# Altium footprint library LED.PcbLib: 53 footprints (part 3 of 4)
Each footprint in its own frame and in the unit in brackets; x right, y up, seen from the top. Pads: shape width x height; smd on the part's side, far side on the other; paste and mask are expansions set on the pad; w line width, h text height; cw(c..) or ccw(c..) is an arc to the next point about the centre after c.
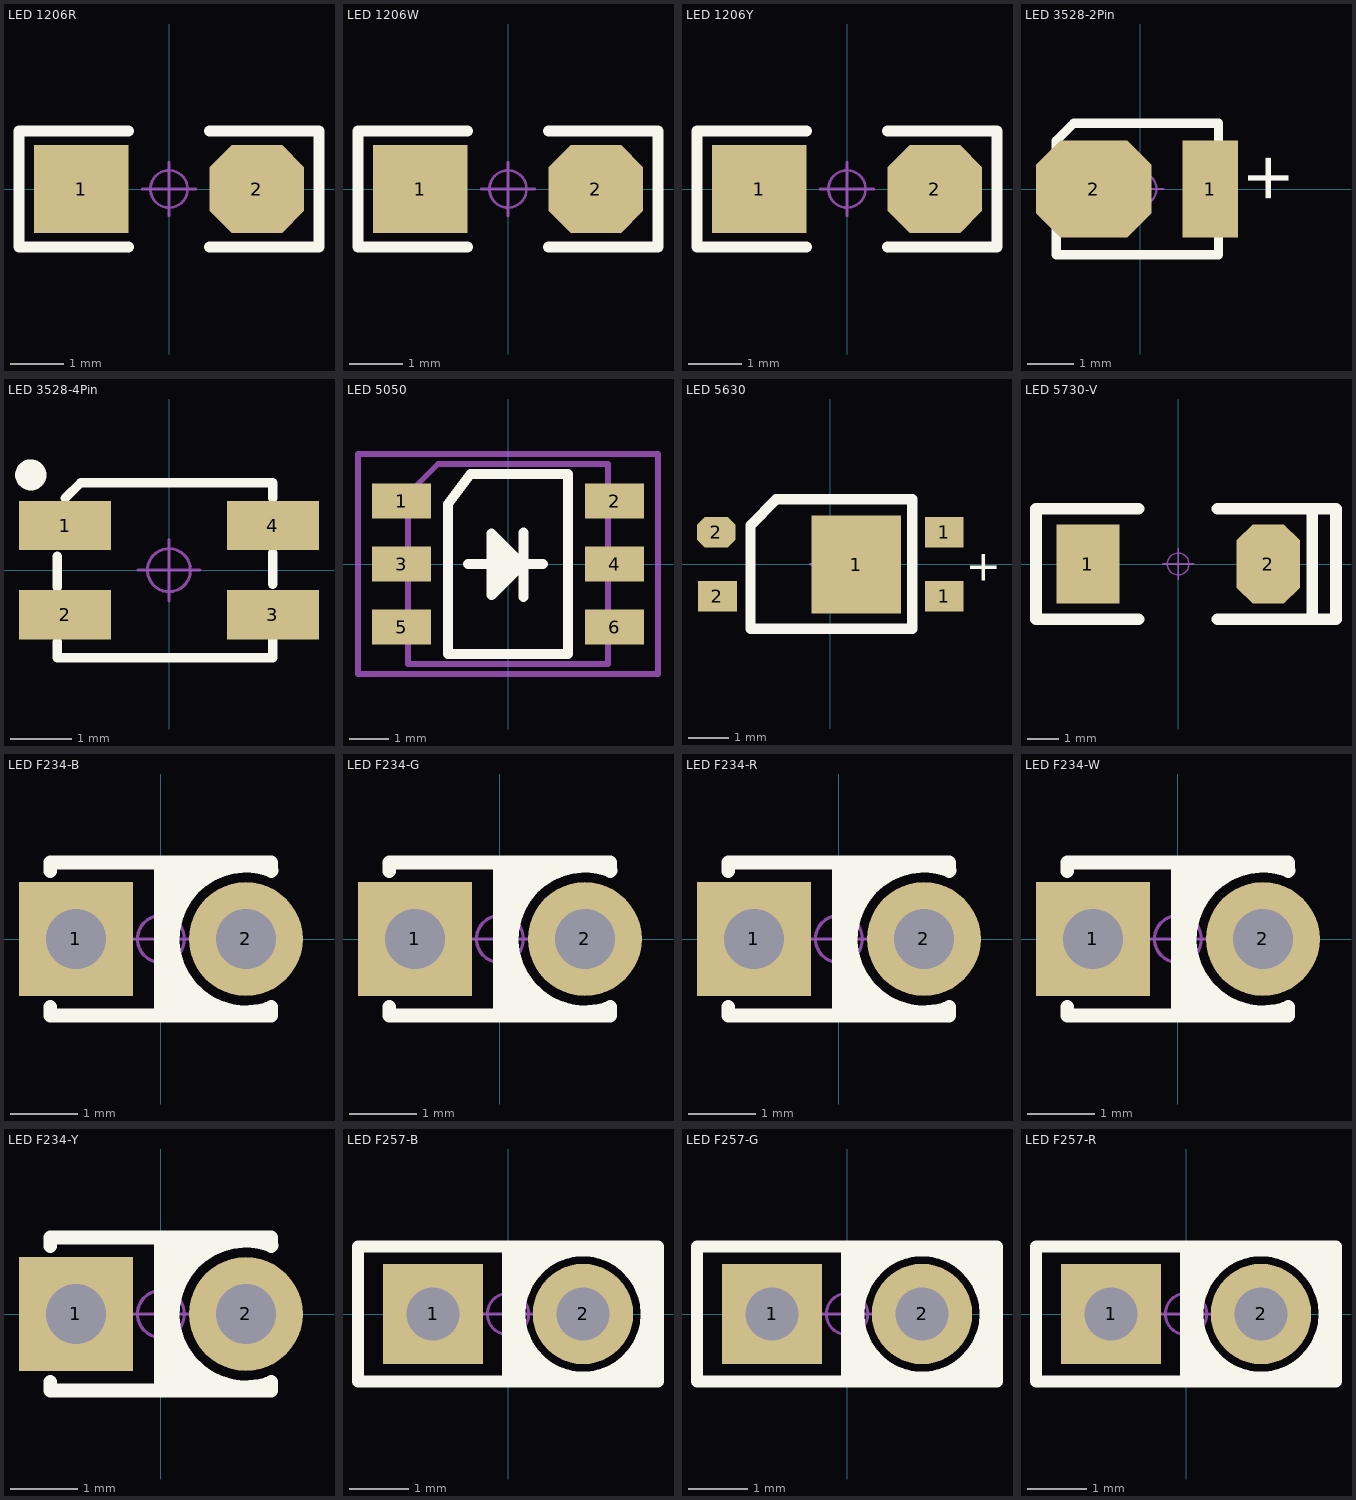
[diagram p2: the footprints below, top view; thin cyan lines are the x and y axes]

## LED 1206R [mil] "红色1206LED"
pads (2):
  rect 70x65 smd: 1(-65,0)
  oct 70x65 smd: 2(65,0)
Top Overlay:
  lines w8: -30,-43 -111,-43 -111,43 -109,43 -30,43 ; 30,-43 109,-43 ; 30,43 111,43 111,-43
Mechanical 15:
  circle w1.97: c0,0 r13.78
  lines w1.97: -19.68,0 19.68,0 ; 0,-19.68 0,19.68
3D body "LED 1206-R.STEP": height 35.58, standoff -0.16, extent -63.03,-31.54 63.03,31.54
3D body "LED 1206玻璃罩.ST": height 0, standoff 0, extent 0,0 0,0

## LED 1206W [mil] "白色1206LED"
pads (2):
  rect 70x65 smd: 1(-65,0)
  oct 70x65 smd: 2(65,0)
Top Overlay:
  lines w8: -30,-43 -111,-43 -111,43 -109,43 -30,43 ; 30,-43 109,-43 ; 30,43 111,43 111,-43
Mechanical 15:
  circle w1.97: c0,0 r13.78
  lines w1.97: -19.68,0 19.68,0 ; 0,-19.68 0,19.68
3D body "LED 1206玻璃罩.ST": height 0, standoff 0, extent 0,0 0,0
3D body "LED 1206-W.STEP": height 35.58, standoff -0.16, extent -63.03,-31.54 63.03,31.54

## LED 1206Y [mil] "黄色1206LED"
pads (2):
  rect 70x65 smd: 1(-65,0)
  oct 70x65 smd: 2(65,0)
Top Overlay:
  lines w8: -30,-43 -111,-43 -111,43 -109,43 -30,43 ; 30,-43 109,-43 ; 30,43 111,43 111,-43
Mechanical 15:
  circle w1.97: c0,0 r13.78
  lines w1.97: -19.68,0 19.68,0 ; 0,-19.68 0,19.68
3D body "LED 1206-Y.STEP": height 35.58, standoff -0.16, extent -63.03,-31.54 63.03,31.54
3D body "LED 1206玻璃罩.ST": height 0, standoff 0, extent 0,0 0,0

## LED 3528-2Pin [mm] "2脚，3528LED"
pads (2):
  rect 1.2x2.1 smd: 1(1.511,0)
  oct 2.5x2.1 smd: 2(-1.003,0)
Top Overlay:
  lines w0.2: -1.816,-1.422 -1.816,1.041 -1.435,1.422 1.689,1.422 1.689,-1.422 -1.816,-1.422
  text "+" at 3.213,-0.356 h1.02
Mechanical 15:
  circle w0.05: c0,0 r0.35
  lines w0.05: -0.5,0 0.5,0 ; 0,-0.5 0,0.5
3D body "LED 3528-2Pin 基体.STEP": height 1.95, standoff 0.05, extent -1.75,-1.4 1.75,1.4
3D body "LED 3528 透明胶.STEP": height 1.95, standoff 1.2, extent -1.195,-1.195 1.195,1.195

## LED 3528-4Pin [mm] "4脚，3528LED"
pads (4):
  rect 1.5x0.8 smd: 1(-1.689,0.725) 2(-1.689,-0.725) 3(1.689,-0.725) 4(1.689,0.725)
Top Overlay:
  circle w0.254: c-2.248,1.549 r0.127
  lines w0.152: -1.816,-1.168 -1.816,-1.422 1.689,-1.422 1.689,-1.118 ; -1.816,-0.279 -1.816,0.229 ; -1.689,1.168 -1.435,1.422 1.689,1.422 1.689,1.168 ; 1.689,-0.229 1.689,0.279
Mechanical 15:
  circle w0.05: c0,0 r0.35
  lines w0.05: -0.5,0 0.5,0 ; 0,-0.5 0,0.5
3D body "LED 3528-4Pin 基体.STEP": height 1.95, standoff 0.05, extent -1.75,-1.4 1.75,1.4
3D body "LED 3528 透明胶.ST": height 1.95, standoff 1.2, extent -1.195,-1.195 1.195,1.195

## LED 5050 [mm] "白色5050LED"
pads (6):
  rect 1.5x0.9 smd: 1(-2.705,1.6) 2(2.705,1.6) 3(-2.705,0) 4(2.705,0) 5(-2.705,-1.6) 6(2.705,-1.6)
Top Overlay:
  lines w0.254: -1.016,0 0.889,0 ; -0.254,0.559 -0.229,-0.432 0.254,0 0,0.254 0,0 0,-0.254 ; 0.356,-0.02 -0.417,-0.792 -0.417,0.775 0.396,-0.038 ; 0.396,-0.841 0.396,0.805 ; -1.524,-2.286 1.524,-2.286 1.524,2.286 -0.953,2.286 -1.524,1.524 -1.524,-2.286
Mechanical 13:
  lines w0.15: -2.54,-2.54 2.54,-2.54 2.54,2.54 -1.778,2.54 -2.54,1.778 -2.54,-2.54
Mechanical 15:
  circle w0.05: c0,0 r0.35
  lines w0.05: -0.5,0 0.5,0 ; 0,-0.5 0,0.5
  lines w0.15: -3.81,-2.794 3.81,-2.794 3.81,2.794 -3.81,2.794 -3.81,-2.794
3D body "LED 5050 透明胶.ST": height 1.65, standoff 0.67, extent -1.995,-1.995 1.995,1.995
3D body "LED 5050 基体.STEP": height 1.65, standoff 0.05, extent -2.7,-2.5 2.7,2.5

## LED 5630 [mm] "白色5630LED"
pads (5):
  rect 2.2x2.4 smd: 1(0.635,-0.006)
  rect 0.95x0.75 smd: 1(2.794,-0.781) 1(2.794,0.781) 2(-2.769,-0.781)
  oct 0.95x0.75 smd: 2(-2.794,0.781)
Top Overlay:
  lines w0.254: -1.956,-1.581 2.007,-1.581 2.007,1.594 -1.321,1.594 -1.956,0.959 -1.956,-1.581
  text "+" at 3.327,-0.4 h0.76
Mechanical 15:
  circle w0.05: c0,0 r0.35
  lines w0.05: -0.5,0 0.5,0 ; 0,-0.5 0,0.5
3D body "LED 5630 基体.STEP": height 0.95, standoff 0.05, extent -2.9,-1.5 2.9,1.5
3D body "LED 5630 透明胶.STEP": height 0.95, standoff 0.6, extent -2.395,-1.395 2.395,1.395

## LED 5730-V [mm] "紫色5730LED"
pads (2):
  rect 2.032x2.54 smd: 1(-2.9,0)
  oct 2.032x2.54 smd: 2(2.9,0)
Top Overlay:
  lines w0.381: -1.27,-1.778 -4.572,-1.778 -4.572,1.778 -1.27,1.778 ; 1.27,-1.778 4.318,-1.778 ; 1.27,1.778 4.318,1.778 4.318,-1.778 ; 4.191,1.778 5.08,1.778 5.08,-1.778 4.318,-1.778
Mechanical 15:
  circle w0.05: c0,0 r0.35
  lines w0.05: -0.5,0 0.5,0 ; 0,-0.5 0,0.5
3D body "LED_UV5730.STEP": height 0.85, standoff 0, extent -2.85,-1.5 2.85,1.5

## LED F234-B [mm] "蓝色2mm*3mm*4mm(长*宽*高)"
pads (2):
  rect 1.7x1.7 hole 0.9: 1(-1.27,0)
  round 1.7 hole 0.9: 2(1.27,0)
Top Overlay:
  lines w0.203: -1.651,-1.016 -1.651,-1.143 1.651,-1.143 1.651,-1.016 ; -1.651,1.016 -1.651,1.143 1.651,1.143 1.651,1.016 ; 0,-1.143 0,1.143 ; 0,-0.889 0.254,-1.143 ; 0,-0.635 0.508,-1.143 ; 0,-0.381 0.762,-1.143 ; 0,0.381 0.762,1.143 ; 0,0.635 0.508,1.143 ; 0,0.889 0.254,1.143 ; 0.127,-0.635 0.127,0.508 ; 1.584,-1.046 cw(c1.27,0) 1.654,1.023
Mechanical 15:
  circle w0.05: c0,0 r0.35
  lines w0.05: -0.5,0 0.5,0 ; 0,-0.5 0,0.5
3D body "LED F234透明罩.STEP": height 4.05, standoff 0.05, extent -1.5,-1 1.5,1
3D body "LED F234-B.STEP": height 3.01, standoff -3.45, extent -1.52,-0.838 1.52,0.838

## LED F234-G [mm] "绿色2mm*3mm*4mm(长*宽*高)"
pads (2):
  rect 1.7x1.7 hole 0.9: 1(-1.27,0)
  round 1.7 hole 0.9: 2(1.27,0)
Top Overlay:
  lines w0.203: -1.651,-1.016 -1.651,-1.143 1.651,-1.143 1.651,-1.016 ; -1.651,1.016 -1.651,1.143 1.651,1.143 1.651,1.016 ; 0,-1.143 0,1.143 ; 0,-0.889 0.254,-1.143 ; 0,-0.635 0.508,-1.143 ; 0,-0.381 0.762,-1.143 ; 0,0.381 0.762,1.143 ; 0,0.635 0.508,1.143 ; 0,0.889 0.254,1.143 ; 0.127,-0.635 0.127,0.508 ; 1.584,-1.046 cw(c1.27,0) 1.654,1.023
Mechanical 15:
  circle w0.05: c0,0 r0.35
  lines w0.05: -0.5,0 0.5,0 ; 0,-0.5 0,0.5
3D body "LED F234-G.STEP": height 3.01, standoff -3.45, extent -1.52,-0.838 1.52,0.838
3D body "LED F234透明罩.STEP": height 4.05, standoff 0.05, extent -1.5,-1 1.5,1

## LED F234-R [mm] "红色2mm*3mm*4mm(长*宽*高)"
pads (2):
  rect 1.7x1.7 hole 0.9: 1(-1.27,0)
  round 1.7 hole 0.9: 2(1.27,0)
Top Overlay:
  lines w0.203: -1.651,-1.016 -1.651,-1.143 1.651,-1.143 1.651,-1.016 ; -1.651,1.016 -1.651,1.143 1.651,1.143 1.651,1.016 ; 0,-1.143 0,1.143 ; 0,-0.889 0.254,-1.143 ; 0,-0.635 0.508,-1.143 ; 0,-0.381 0.762,-1.143 ; 0,0.381 0.762,1.143 ; 0,0.635 0.508,1.143 ; 0,0.889 0.254,1.143 ; 0.127,-0.635 0.127,0.508 ; 1.584,-1.046 cw(c1.27,0) 1.654,1.023
Mechanical 15:
  circle w0.05: c0,0 r0.35
  lines w0.05: -0.5,0 0.5,0 ; 0,-0.5 0,0.5
3D body "LED F234-R.STEP": height 3.01, standoff -3.45, extent -1.52,-0.838 1.52,0.839
3D body "LED F234透明罩.STEP": height 4.05, standoff 0.05, extent -1.5,-1 1.5,1

## LED F234-W [mm] "透明色2mm*3mm*4mm(长*宽*高)"
pads (2):
  rect 1.7x1.7 hole 0.9: 1(-1.27,0)
  round 1.7 hole 0.9: 2(1.27,0)
Top Overlay:
  lines w0.203: -1.651,-1.016 -1.651,-1.143 1.651,-1.143 1.651,-1.016 ; -1.651,1.016 -1.651,1.143 1.651,1.143 1.651,1.016 ; 0,-1.143 0,1.143 ; 0,-0.889 0.254,-1.143 ; 0,-0.635 0.508,-1.143 ; 0,-0.381 0.762,-1.143 ; 0,0.381 0.762,1.143 ; 0,0.635 0.508,1.143 ; 0,0.889 0.254,1.143 ; 0.127,-0.635 0.127,0.508 ; 1.584,-1.046 cw(c1.27,0) 1.654,1.023
Mechanical 15:
  circle w0.05: c0,0 r0.35
  lines w0.05: -0.5,0 0.5,0 ; 0,-0.5 0,0.5
3D body "LED F234透明罩.STEP": height 4.05, standoff 0.05, extent -1.5,-1 1.5,1
3D body "LED F234-W.STEP": height 3.01, standoff -3.45, extent -1.52,-0.838 1.52,0.838

## LED F234-Y [mm] "黄色2mm*3mm*4mm(长*宽*高)"
pads (2):
  rect 1.7x1.7 hole 0.9: 1(-1.27,0)
  round 1.7 hole 0.9: 2(1.27,0)
Top Overlay:
  lines w0.203: -1.651,-1.016 -1.651,-1.143 1.651,-1.143 1.651,-1.016 ; -1.651,1.016 -1.651,1.143 1.651,1.143 1.651,1.016 ; 0,-1.143 0,1.143 ; 0,-0.889 0.254,-1.143 ; 0,-0.635 0.508,-1.143 ; 0,-0.381 0.762,-1.143 ; 0,0.381 0.762,1.143 ; 0,0.635 0.508,1.143 ; 0,0.889 0.254,1.143 ; 0.127,-0.635 0.127,0.508 ; 1.584,-1.046 cw(c1.27,0) 1.654,1.023
Mechanical 15:
  circle w0.05: c0,0 r0.35
  lines w0.05: -0.5,0 0.5,0 ; 0,-0.5 0,0.5
3D body "LED F234-Y.STEP": height 3.01, standoff -3.45, extent -1.52,-0.838 1.52,0.838
3D body "LED F234透明罩.STEP": height 4.05, standoff 0.05, extent -1.5,-1 1.5,1

## LED F257-B [mm] "蓝色2mm*5mm*7mm(长*宽*高)"
pads (2):
  rect 1.7x1.7 hole 0.9: 1(-1.27,0)
  round 1.7 hole 0.9: 2(1.27,0)
Top Overlay:
  circle w0.203: c1.27,0 r1.078
  lines w0.203: 0,-1.143 0,1.143 ; 0,-0.889 0.254,-1.143 ; 0,-0.635 0.508,-1.143 ; 0,-0.381 0.635,-1.016 0.762,-1.143 ; 0,0.381 0.762,1.143 ; 0,0.635 0.508,1.143 ; 0,0.762 0,0.889 0.254,1.143 ; 0.127,-0.635 0.127,0.508 ; 1.778,-1.143 2.54,-0.381 ; 1.905,1.143 1.778,1.143 2.54,0.381 ; 2.032,-1.143 2.54,-0.635 ; 2.032,1.143 2.54,0.635 ; 2.286,-1.143 2.54,-0.889 ; 2.286,1.143 2.54,0.889 ; 2.413,-0.508 2.413,0.508 ; -2.54,-1.143 -2.54,1.143 2.54,1.143 2.54,-1.143 -2.54,-1.143
Mechanical 15:
  circle w0.05: c0,0 r0.35
  lines w0.05: -0.5,0 0.5,0 ; 0,-0.5 0,0.5
3D body "LED F257透明罩.STEP": height 7.05, standoff 0.05, extent -2.5,-1 2.5,1
3D body "LED F234-B.STEP": height 3.01, standoff -3.45, extent -1.52,-0.838 1.52,0.838

## LED F257-G [mm] "绿色2mm*5mm*7mm(长*宽*高)"
pads (2):
  rect 1.7x1.7 hole 0.9: 1(-1.27,0)
  round 1.7 hole 0.9: 2(1.27,0)
Top Overlay:
  circle w0.203: c1.27,0 r1.078
  lines w0.203: 0,-1.143 0,1.143 ; 0,-0.889 0.254,-1.143 ; 0,-0.635 0.508,-1.143 ; 0,-0.381 0.635,-1.016 0.762,-1.143 ; 0,0.381 0.762,1.143 ; 0,0.635 0.508,1.143 ; 0,0.762 0,0.889 0.254,1.143 ; 0.127,-0.635 0.127,0.508 ; 1.778,-1.143 2.54,-0.381 ; 1.905,1.143 1.778,1.143 2.54,0.381 ; 2.032,-1.143 2.54,-0.635 ; 2.032,1.143 2.54,0.635 ; 2.286,-1.143 2.54,-0.889 ; 2.286,1.143 2.54,0.889 ; 2.413,-0.508 2.413,0.508 ; -2.54,-1.143 -2.54,1.143 2.54,1.143 2.54,-1.143 -2.54,-1.143
Mechanical 15:
  circle w0.05: c0,0 r0.35
  lines w0.05: -0.5,0 0.5,0 ; 0,-0.5 0,0.5
3D body "LED F234-G.STEP": height 3.01, standoff -3.45, extent -1.52,-0.838 1.52,0.838
3D body "LED F257透明罩.STEP": height 7.05, standoff 0.05, extent -2.5,-1 2.5,1

## LED F257-R [mm] "红色2mm*5mm*7mm(长*宽*高)"
pads (2):
  rect 1.7x1.7 hole 0.9: 1(-1.27,0)
  round 1.7 hole 0.9: 2(1.27,0)
Top Overlay:
  circle w0.203: c1.27,0 r1.078
  lines w0.203: 0,-1.143 0,1.143 ; 0,-0.889 0.254,-1.143 ; 0,-0.635 0.508,-1.143 ; 0,-0.381 0.635,-1.016 0.762,-1.143 ; 0,0.381 0.762,1.143 ; 0,0.635 0.508,1.143 ; 0,0.762 0,0.889 0.254,1.143 ; 0.127,-0.635 0.127,0.508 ; 1.778,-1.143 2.54,-0.381 ; 1.905,1.143 1.778,1.143 2.54,0.381 ; 2.032,-1.143 2.54,-0.635 ; 2.032,1.143 2.54,0.635 ; 2.286,-1.143 2.54,-0.889 ; 2.286,1.143 2.54,0.889 ; 2.413,-0.508 2.413,0.508 ; -2.54,-1.143 -2.54,1.143 2.54,1.143 2.54,-1.143 -2.54,-1.143
Mechanical 15:
  circle w0.05: c0,0 r0.35
  lines w0.05: -0.5,0 0.5,0 ; 0,-0.5 0,0.5
3D body "LED F234-R.STEP": height 3.01, standoff -3.45, extent -1.52,-0.838 1.52,0.839
3D body "LED F257透明罩.STEP": height 7.05, standoff 0.05, extent -2.5,-1 2.5,1